# Altium footprint library Test_PCB.PcbLib: 28 footprints (part 1 of 2)
Each footprint in its own frame and in the unit in brackets; x right, y up, seen from the top. Pads: shape width x height; smd on the part's side, far side on the other; paste and mask are expansions set on the pad; w line width, h text height; cw(c..) or ccw(c..) is an arc to the next point about the centre after c.
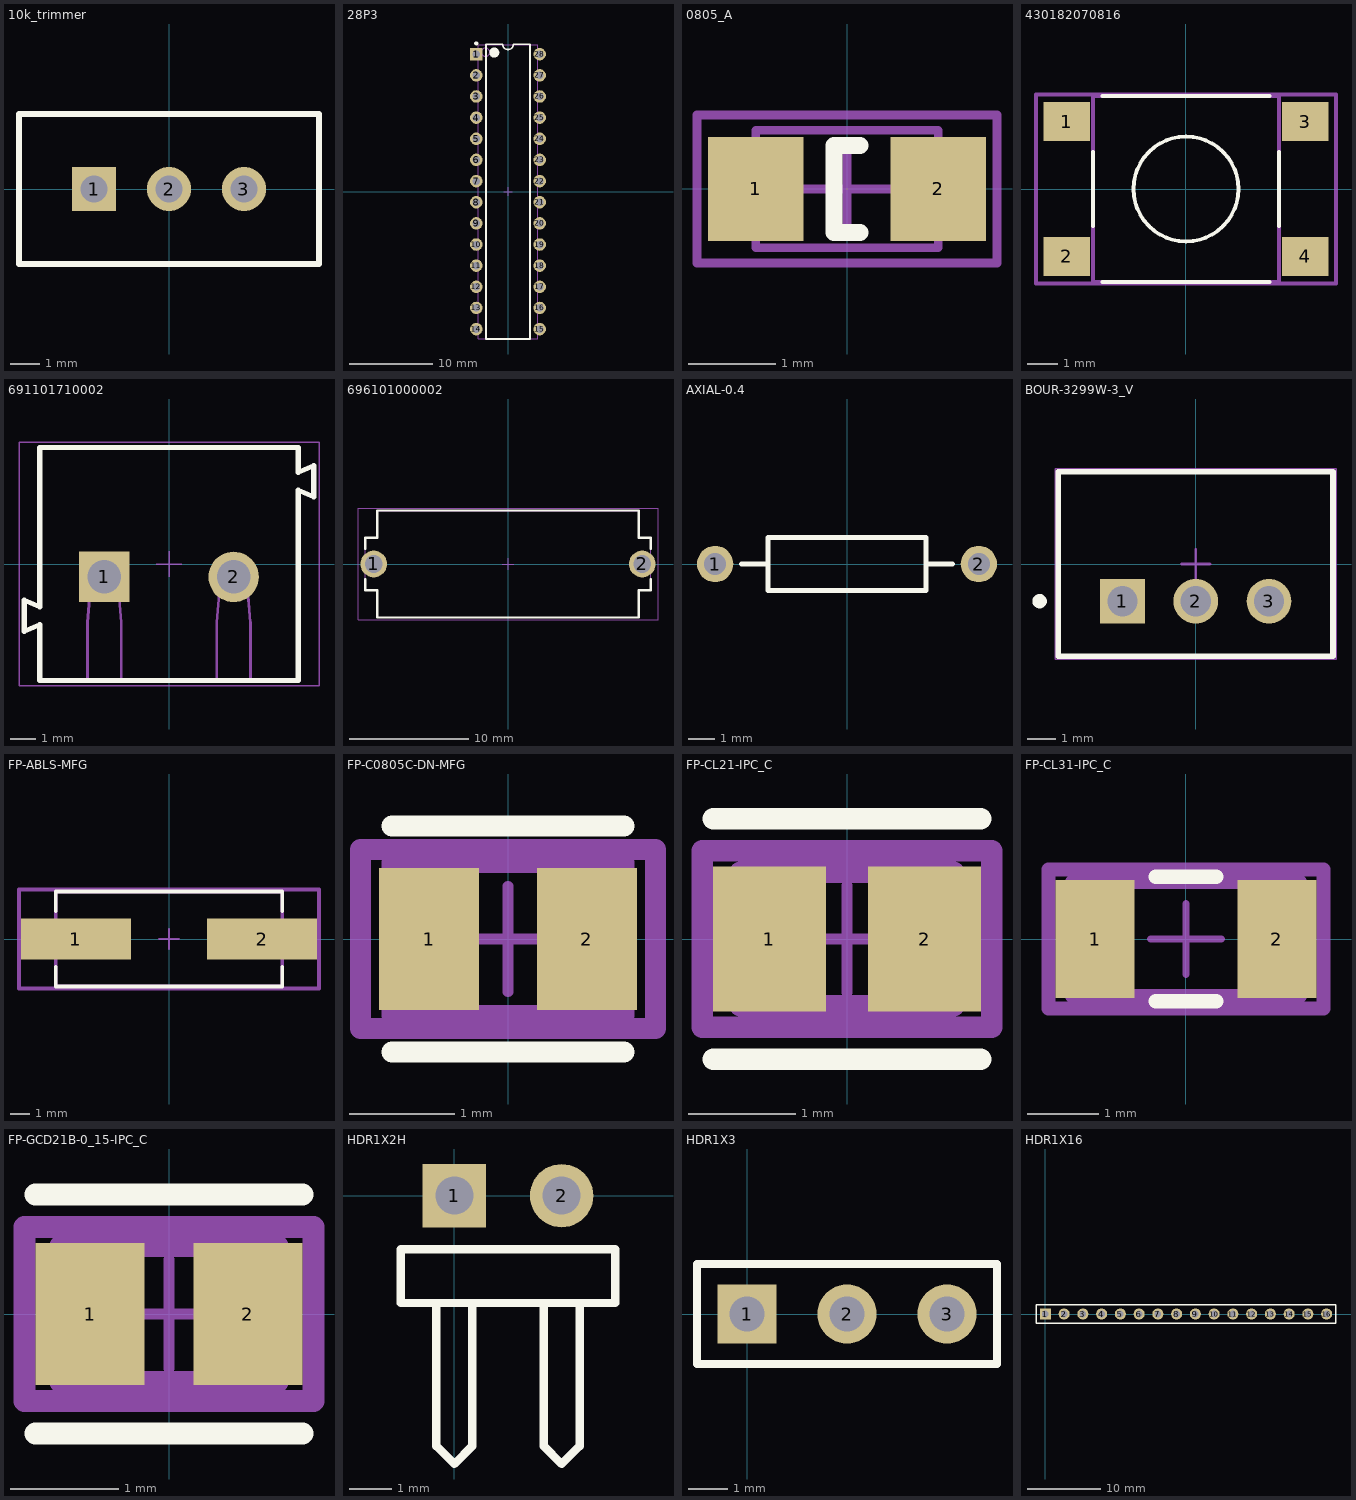
[diagram p0: the footprints below, top view; thin cyan lines are the x and y axes]

## 10k_trimmer [mm]
pads (3):
  rect 1.5x1.5 hole 0.9: 1(-2.54,0)
  round 1.5 hole 0.9: 2(0,0) 3(2.54,0)
Top Overlay:
  lines w0.2: -5.08,-2.54 -5.08,2.54 5.08,2.54 5.08,-2.54 -5.08,-2.54

## 28P3 [mm]
pads (28):
  rect 1.5x1.5 hole 0.9: 1(-3.81,16.51)
  round 1.5 hole 0.9: 2(-3.81,13.97) 3(-3.81,11.43) 4(-3.81,8.89) 5(-3.81,6.35) 6(-3.81,3.81) 7(-3.81,1.27) 8(-3.81,-1.27) 9(-3.81,-3.81) 10(-3.81,-6.35) 11(-3.81,-8.89) 12(-3.81,-11.43) 13(-3.81,-13.97) 14(-3.81,-16.51) 15(3.81,-16.51) 16(3.81,-13.97) 17(3.81,-11.43) 18(3.81,-8.89) 19(3.81,-6.35) 20(3.81,-3.81) 21(3.81,-1.27) 22(3.81,1.27) 23(3.81,3.81) 24(3.81,6.35) 25(3.81,8.89) 26(3.81,11.43) 27(3.81,13.97) 28(3.81,16.51)
Top Overlay:
  circle w0.25: c-3.81,17.81 r0.125
  circle w0.6: c-1.65,16.7 r0.3
  lines w0.2: -2.65,-17.7 -2.65,17.7 -0.635,17.7 ccw(c0,17.7) 0.635,17.7 2.65,17.7 2.65,-17.7 -2.65,-17.7
Mechanical 13:
  circle w0.1: c-2.7,16.75 r0.5
  lines w0.1: -3.6,-17.65 -3.6,17.65 3.6,17.65 3.6,-17.65 -3.6,-17.65
Mechanical 15:
  lines w0.1: -0.5,0 0.5,0 ; 0,-0.5 0,0.5
3D body: height 4.58, standoff 0, extent -3.6,-17.65 3.6,17.65

## 0805_A [mm]
pads (2):
  rect 1.1x1.2 smd: 1(-1.05,0) 2(1.05,0)
Top Overlay:
  lines w0.2: 0.15,-0.5 -0.15,-0.5 -0.15,0.5 0.15,0.5
Mechanical 13:
  lines w0.1: -1.05,-0.675 1.05,-0.675 1.05,0.675 -1.05,0.675 -1.05,-0.675
Mechanical 15:
  lines w0.1: -0.5,0 0.5,0 ; 0,-0.5 0,0.5 ; -1.725,-0.85 1.725,-0.85 1.725,0.85 -1.725,0.85 -1.725,-0.85
3D body "WL-SMCW_0805_LED.stp": height 0.68, standoff -0.02, extent -1,-0.625 1,0.625

## 430182070816 [mm]
pads (4):
  rect 1.55x1.3 smd: 1(-3.975,2.25) 2(-3.975,-2.25) 3(3.975,2.25) 4(3.975,-2.25)
Top Overlay:
  circle w0.127: c0,0 r1.75
  lines w0.127: -3.1,-1.24 -3.1,1.24 ; -2.79,-3.1 2.79,-3.1 ; -2.79,3.1 2.79,3.1 ; 3.1,-1.24 3.1,1.24
Mechanical 13:
  lines w0.127: -3.1,-3.1 -3.1,3.1 3.1,3.1 3.1,-3.1 -3.1,-3.1
Mechanical 15:
  lines w0.127: -5,-3.15 5,-3.15 5,3.15 -5,3.15 -5,-3.15
3D body "4301x20708x6.stp": height 6.99, standoff -0.01, extent -4.5,-3.1 4.5,3.1

## 691101710002 [mm]
pads (2):
  rect 1.95x1.95 hole 1.3: 1(-2.5,-0.5)
  round 1.95 hole 1.3: 2(2.5,-0.5)
Top Overlay:
  lines w0.2: -5,-2.35 -5.6,-2.6 -5.6,-1.4 -5,-1.65 -5,4.5 5,4.5 5,3.55 5.6,3.8 5.6,2.6 5,2.85 5,-4.5 -5,-4.5 -5,-2.35
Mechanical 13:
  lines w0.1: -5,-2.35 -5.6,-2.6 -5.6,-1.4 -5,-1.65 -5,4.5 5,4.5 5,3.55 5.6,3.8 5.6,2.6 5,2.85 5,-4.5 -5,-4.5 -5,-2.35 ; -3.15,-4.5 -3.15,-2.25 -2.996,-0.457 ; -3,-0.5 cw(c-2.5,-0.5) -2,-0.5 ; -2.004,-0.457 -1.85,-2.25 -1.85,-4.5 ; 1.85,-4.5 1.85,-2.25 2.004,-0.457 ; 2,-0.5 cw(c2.5,-0.5) 3,-0.5 ; 2.996,-0.457 3.15,-2.25 3.15,-4.5
Mechanical 15:
  lines w0.05: -0.5,0 0.5,0 ; 0,-0.5 0,0.5 ; -5.8,-4.7 5.8,-4.7 5.8,4.7 -5.8,4.7 -5.8,-4.7
3D body "691101710002.stp": height 12.65, standoff -3.75, extent -5.6,-4.5 5.6,4.5

## 696101000002 [mm]
pads (2):
  round 2.25 hole 1.5: 1(-11.3,0) 2(11.3,0)
Top Overlay:
  lines w0.2: -12,-1.26 -12,-2.21 -11,-2.21 -11,-4.5 11,-4.5 11,-2.21 12,-2.21 12,-1.26 ; -12,1.26 -12,2.21 -11,2.21 -11,4.5 11,4.5 11,2.21 12,2.21 12,1.26
Mechanical 13:
  lines w0.1: -12,-2.21 -12,2.21 -11,2.21 -11,4.5 11,4.5 11,2.21 12,2.21 12,-2.21 11,-2.21 11,-4.5 -11,-4.5 -11,-2.21 -12,-2.21
Mechanical 15:
  lines w0.05: -0.5,0 0.5,0 ; 0,-0.5 0,0.5 ; -12.625,-4.7 -12.625,4.7 12.625,4.7 12.625,-4.7 -12.625,-4.7
3D body "696101000002.stp": height 13.55, standoff -4.45, extent -12,-4.5 12,4.5

## AXIAL-0.4 [mm]
pads (2):
  round 1.4 hole 0.85: 1(-5.08,0) 2(5.08,0)
Top Overlay:
  lines w0.2: -4.064,0 -3.048,0 ; 3.048,0 4.064,0 ; -3.048,-1.016 -3.048,1.016 3.048,1.016 3.048,-1.016 -3.048,-1.016

## BOUR-3299W-3_V [mm]
pads (3):
  rect 1.55x1.55 hole 1.05: 1(-2.54,-1.29)
  round 1.55 hole 1.05: 2(0,-1.29) 3(2.54,-1.29)
Top Overlay:
  circle w0.25: c-5.415,-1.29 r0.125
  lines w0.2: -4.765,-3.2 4.765,-3.2 4.765,3.2 -4.765,3.2 -4.765,-3.2
Mechanical 13:
  lines w0.1: -4.765,-3.2 -4.765,3.2 4.765,3.2 4.765,-3.2 -4.765,-3.2
Mechanical 15:
  lines w0.05: -4.865,-3.3 4.865,-3.3 4.865,3.3 -4.865,3.3 -4.865,-3.3
  lines w0.1: -0.5,0 0.5,0 ; 0,-0.5 0,0.5
3D body: height 11.55, standoff 10.03, extent -4.765,0.91 -2.476,3.2
3D body: height 10.03, standoff 0.38, extent -4.765,-3.2 4.765,3.2

## FP-ABLS-MFG [mm]
pads (2):
  rect 5.6x2.1 smd paste+0 mask+0: 1(-4.75,0) 2(4.75,0)
Top Overlay:
  lines w0.2: -5.775,-1.425 -5.775,-2.425 5.775,-2.425 5.775,-1.425 ; -5.775,1.425 -5.775,2.425 5.775,2.425 5.775,1.425
Top 3D Body:
  lines w0.2: -5.775,-2.425 -5.775,2.425 5.775,2.425 5.775,-2.425 -5.775,-2.425
Top Courtyard:
  lines w0.2: -7.65,-2.525 -7.65,2.525 7.65,2.525 7.65,-2.525 -7.65,-2.525
Top Assembly:
  lines w0.2: -7.65,-2.525 -7.65,2.525 7.65,2.525 7.65,-2.525 -7.65,-2.525
  text ".Designator" at 0,0.188 h1
Top Component Center:
  lines w0.1: -0.5,0 0.5,0 ; 0,-0.5 0,0.5
3D body "Crys_Abracon_ABLS-16_000MHZ-K4T_eec.STEP": height 0.25, standoff 0, extent -7.65,-2.525 7.65,2.525

## FP-C0805C-DN-MFG [mm]
pads (2):
  rect 0.95x1.35 smd paste+0 mask+0: 1(-0.75,0) 2(0.75,0)
Top Overlay:
  lines w0.2: -1.1,-1.075 1.1,-1.075 ; -1.1,1.075 1.1,1.075
Top 3D Body:
  lines w0.2: -1.1,-0.725 -1.1,0.725 1.1,0.725 1.1,-0.725 -1.1,-0.725
Top Courtyard:
  lines w0.2: -1.4,-0.85 -1.4,0.85 1.4,0.85 1.4,-0.85 -1.4,-0.85
Top Assembly:
  lines w0.2: -1.4,-0.85 -1.4,0.85 1.4,0.85 1.4,-0.85 -1.4,-0.85
  text ".Designator" at 0,0.188 h1
Top Component Center:
  lines w0.1: -0.5,0 0.5,0 ; 0,-0.5 0,0.5
3D body "Cap_KEMET_C0805C472J3HAC_eec.STEP": height 0.25, standoff 0, extent -1.4,-0.85 1.4,0.85

## FP-CL21-IPC_C [mm]
pads (2):
  rect 1.055x1.356 smd paste+0 mask+0: 1(-0.726,0) 2(0.726,0)
Top Overlay:
  lines w0.2: -1.253,-1.125 1.253,-1.125 ; -1.253,1.125 1.253,1.125
Top 3D Body:
  lines w0.2: -1,-0.625 -1,0.625 1,0.625 1,-0.625 -1,-0.625
Top Courtyard:
  lines w0.2: -1.353,-0.825 -1.353,0.825 1.353,0.825 1.353,-0.825 -1.353,-0.825
Top Assembly:
  lines w0.2: -1.353,-0.825 -1.353,0.825 1.353,0.825 1.353,-0.825 -1.353,-0.825
  text ".Designator" at 0,0.188 h1
Top Component Center:
  lines w0.1: -0.5,0 0.5,0 ; 0,-0.5 0,0.5
3D body "Cap_Samsung_CL21B273KBANNNC_eec.STEP": height 0.25, standoff 0, extent -1.353,-0.825 1.353,0.825

## FP-CL31-IPC_C [mm]
pads (2):
  rect 1.105x1.658 smd paste+0 mask+0: 1(-1.276,0) 2(1.276,0)
Top Overlay:
  lines w0.2: -0.424,-0.875 0.424,-0.875 ; -0.424,0.875 0.424,0.875
Top 3D Body:
  lines w0.2: -1.6,-0.8 -1.6,0.8 1.6,0.8 1.6,-0.8 -1.6,-0.8
Top Courtyard:
  lines w0.2: -1.929,-0.975 -1.929,0.975 1.929,0.975 1.929,-0.975 -1.929,-0.975
Top Assembly:
  lines w0.2: -1.929,-0.975 -1.929,0.975 1.929,0.975 1.929,-0.975 -1.929,-0.975
  text ".Designator" at 0,0.188 h1
Top Component Center:
  lines w0.1: -0.5,0 0.5,0 ; 0,-0.5 0,0.5
3D body "Cap_Samsung_CL31B105KOFNNNE_eec.STEP": height 0.25, standoff 0, extent -1.929,-0.975 1.929,0.975

## FP-GCD21B-0_15-IPC_C [mm]
pads (2):
  rect 1.006x1.308 smd paste+0 mask+0: 1(-0.726,0) 2(0.726,0)
Top Overlay:
  lines w0.2: -1.229,-1.1 1.229,-1.1 ; -1.229,1.1 1.229,1.1
Top 3D Body:
  lines w0.2: -1,-0.625 -1,0.625 1,0.625 1,-0.625 -1,-0.625
Top Courtyard:
  lines w0.2: -1.329,-0.8 -1.329,0.8 1.329,0.8 1.329,-0.8 -1.329,-0.8
Top Assembly:
  lines w0.2: -1.329,-0.8 -1.329,0.8 1.329,0.8 1.329,-0.8 -1.329,-0.8
  text ".Designator" at 0,0.188 h1
Top Component Center:
  lines w0.1: -0.5,0 0.5,0 ; 0,-0.5 0,0.5
3D body "Cap_Murata_GCD21BR71H823KA01L_eec.STEP": height 0.25, standoff 0, extent -1.329,-0.8 1.329,0.8

## HDR1X2H [mm]
pads (2):
  rect 1.5x1.5 hole 0.9: 1(0,0)
  round 1.5 hole 0.9: 2(2.54,0)
Top Overlay:
  lines w0.2: -0.423,-2.54 -0.423,-5.927 0,-6.35 0.423,-5.927 0.423,-2.54 ; 2.117,-2.54 2.117,-5.927 2.54,-6.35 2.963,-5.927 2.963,-2.54 ; -1.27,-2.54 -1.27,-1.27 3.81,-1.27 3.81,-2.54 -1.27,-2.54

## HDR1X3 [mm]
pads (3):
  rect 1.5x1.5 hole 0.9: 1(0,0)
  round 1.5 hole 0.9: 2(2.54,0) 3(5.08,0)
Top Overlay:
  lines w0.2: -1.27,-1.27 -1.27,1.27 6.35,1.27 6.35,-1.27 -1.27,-1.27

## HDR1X16 [mm]
pads (16):
  rect 1.5x1.5 hole 0.9: 1(0,0)
  round 1.5 hole 0.9: 2(2.54,0) 3(5.08,0) 4(7.62,0) 5(10.16,0) 6(12.7,0) 7(15.24,0) 8(17.78,0) 9(20.32,0) 10(22.86,0) 11(25.4,0) 12(27.94,0) 13(30.48,0) 14(33.02,0) 15(35.56,0) 16(38.1,0)
Top Overlay:
  lines w0.2: -1.27,-1.27 39.37,-1.27 39.37,1.27 0.635,1.27 -1.27,1.27 -1.27,-1.27